# Altium footprint library TSSOP-14_0.PcbLib: 1 footprints
Each footprint in its own frame and in the unit in brackets; x right, y up, seen from the top. Pads: shape width x height; smd on the part's side, far side on the other; paste and mask are expansions set on the pad; w line width, h text height; cw(c..) or ccw(c..) is an arc to the next point about the centre after c.
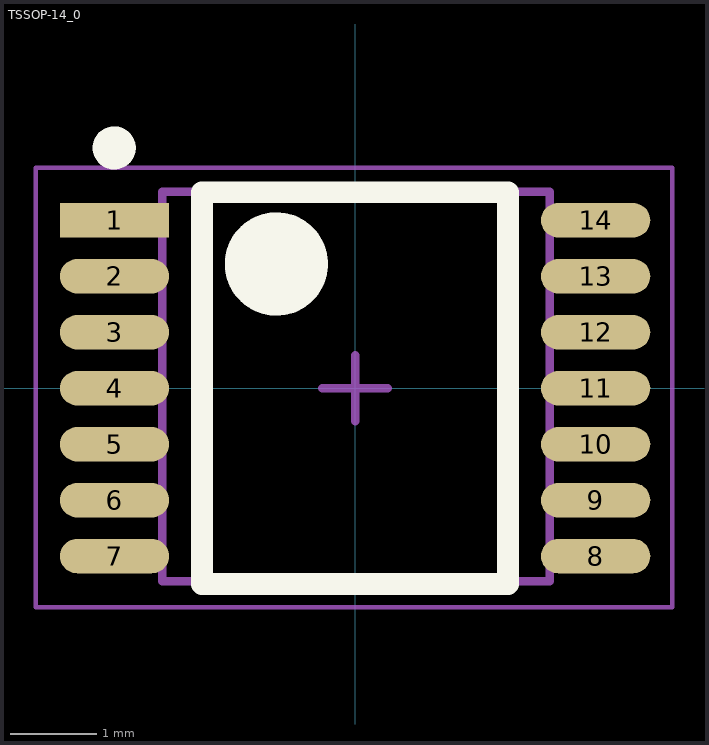
[diagram p0: the footprint, top view; thin cyan lines are the x and y axes]

## TSSOP-14_0 [mil]
pads (14):
  rect 50x15.75 smd mask+1.97: 1(-110,76.8)
  oval 50x15.75 smd mask+1.97: 2(-110,51.2) 3(-110,25.6) 4(-110,0) 5(-110,-25.6) 6(-110,-51.2) 7(-110,-76.8) 8(110,-76.8) 9(110,-51.2) 10(110,-25.6) 11(110,0) 12(110,25.6) 13(110,51.2) 14(110,76.8)
Top Layer:
  region: -28,66.8
Top Overlay:
  circle w9.84: c-110.14,109.88 r4.92
  circle w23.62: c-36,56.8 r11.81
  lines w10: -70,-89.6 -70,89.6 70,89.6 70,-89.6 -70,-89.6
Mechanical 13:
  lines w3.94: -88.17,-88.2 -88.17,89.8 89,89.8 89,-88.2 -88.17,-88.2
Mechanical 15:
  lines w1.97: -146,-100.2 -146,100.8 145,100.8 145,-100.2 -146,-100.2
  lines w3.94: -15,0 15,0 ; 0,-15 0,15
3D body "TSSOP-14.stp": height 43.67, standoff 0.39, extent -126.15,-87.21 127.01,87.98